# EAGLE library part LT12TC (library divers)
Transformer, 1 primary, 2 secondary coils (tapped), case pin
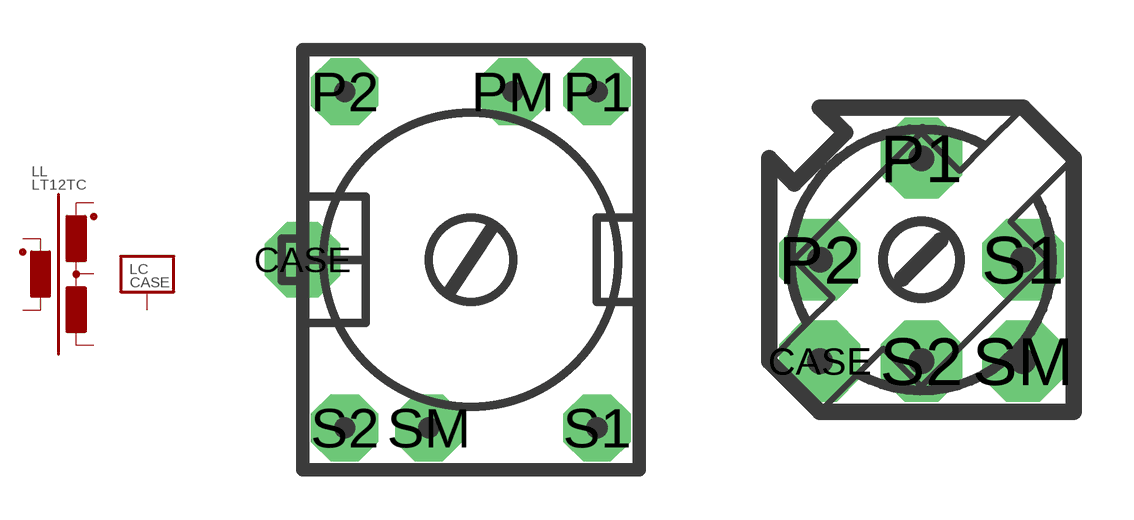
[diagram p4: symbol with the pads of LT2T2TC-10; footprints LT2T2TC-10, LT12TC-7.5]

Designator prefix L; gates L=LT12T C=VCASE

## LT12TC  [LT2T2TC-10]
CASE  C:CASE
P1  L:P1  pas
P2  L:P2  pas
S1  L:S1  pas
S2  L:S2  pas
SM  L:SM  pas

## LT12TC-7.5  [LT12TC-7.5]
Pads as for LT2T2TC-10

## LT12TC-10  [LT2T2TC-10]
Pads as for LT2T2TC-10

## Footprint LT2T2TC-10 (pad centres in mm)
Transformer RF, 2 primary coils (tapped), 2 secondary coils (tapped), ferrite pot core (10x13mm), with case pin
drill 0.991 pad 2.286 octagon: CASE -5.08,0
drill 0.813 pad 2.032 octagon: P1 3.81,5.08; P2 -3.81,5.08; PM 1.27,5.08; S1 3.81,-5.08; S2 -3.81,-5.08; SM -1.27,-5.08

## Footprint LT12TC-7.5 (pad centres in mm)
Transformer RF, 1 primary, 2 secondary coils (tapped), ferrite pot core (7.5x7.5mm), with case pin
drill 0.991 pad 2.032 octagon: CASE -2.54,-2.54
drill 0.813 pad 2.032 octagon: P1 0,2.54; P2 -2.54,0; S1 2.54,0; S2 0,-2.54; SM 2.54,-2.54